# Altium schematic symbol library SCH - DRIVER - LED - TI TPS61169DCK.SchLib: 1 symbol
Pins are listed as number, name and electrical type; pins without a type are passive.

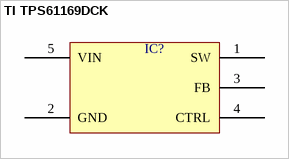
[diagram p0: symbol TI TPS61169DCK]

## TI TPS61169DCK
designator IC?  (value not drawn)
pins: 1 SW, 2 GND, 3 FB, 4 CTRL, 5 VIN